# Altium schematic symbol library SCH - POWER - LINEAR VREG - TI LP2992-1P5DBV.SchLib: 1 symbol
Pins are listed as number, name and electrical type; pins without a type are passive.

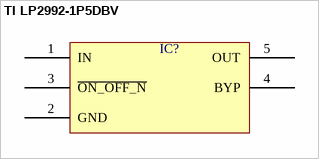
[diagram p0: symbol TI LP2992-1P5DBV]

## TI LP2992-1P5DBV
designator IC?  (value not drawn)
pins: 1 IN, 2 GND, 3 ~{ON_OFF_N}, 4 BYP, 5 OUT